# EAGLE library part CONN_RJ45_MAG_LEDS (library GPLIB_CONN)
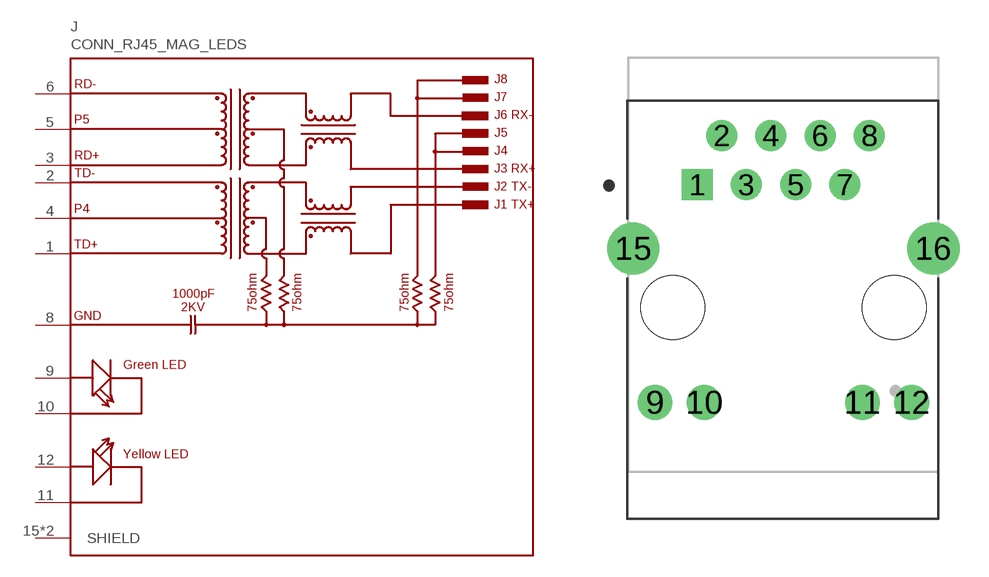
[diagram p60: symbol with the pads of CONN_RJ45_MAG_LEDS_HR911105A; footprint CONN_RJ45_MAG_LEDS_HR911105A]

Designator prefix J

## CONN_RJ45_MAG_LEDS_HR911105A  [CONN_RJ45_MAG_LEDS_HR911105A]
1  TD+  pas
2  TD-  pas
3  RD+  pas
4  P4  pas
5  P5  pas
6  RD-  pas
8  GND  pwr
9  GA  pas
10  GC  pas
11  YC  pas
12  YA  pas
15  SHIELD  pas
16  SHIELD  pas

## Footprint CONN_RJ45_MAG_LEDS_HR911105A (pad centres in mm)
drill 1 pad 1.6 square: 1 -4.445,4.355
drill 1 pad 1.6: 2 -3.175,6.895; 3 -1.905,4.355; 4 -0.635,6.895; 5 0.635,4.355; 6 1.905,6.895; 7 3.175,4.355; 8 4.445,6.895
drill 1.1 pad 1.8: 9 -6.62,-6.895; 10 -4.08,-6.895; 11 4.09,-6.895; 12 6.63,-6.895
drill 1.8 pad 2.5: 15 -7.74,1.055; 16 7.75,1.055
hole 3.3 at 5.72,-1.995
hole 3.3 at -5.71,-1.995